# Altium footprint library floppy_m0dule.PcbLib: 13 footprints
Each footprint in its own frame and in the unit in brackets; x right, y up, seen from the top. Pads: shape width x height; smd on the part's side, far side on the other; paste and mask are expansions set on the pad; w line width, h text height; cw(c..) or ccw(c..) is an arc to the next point about the centre after c.
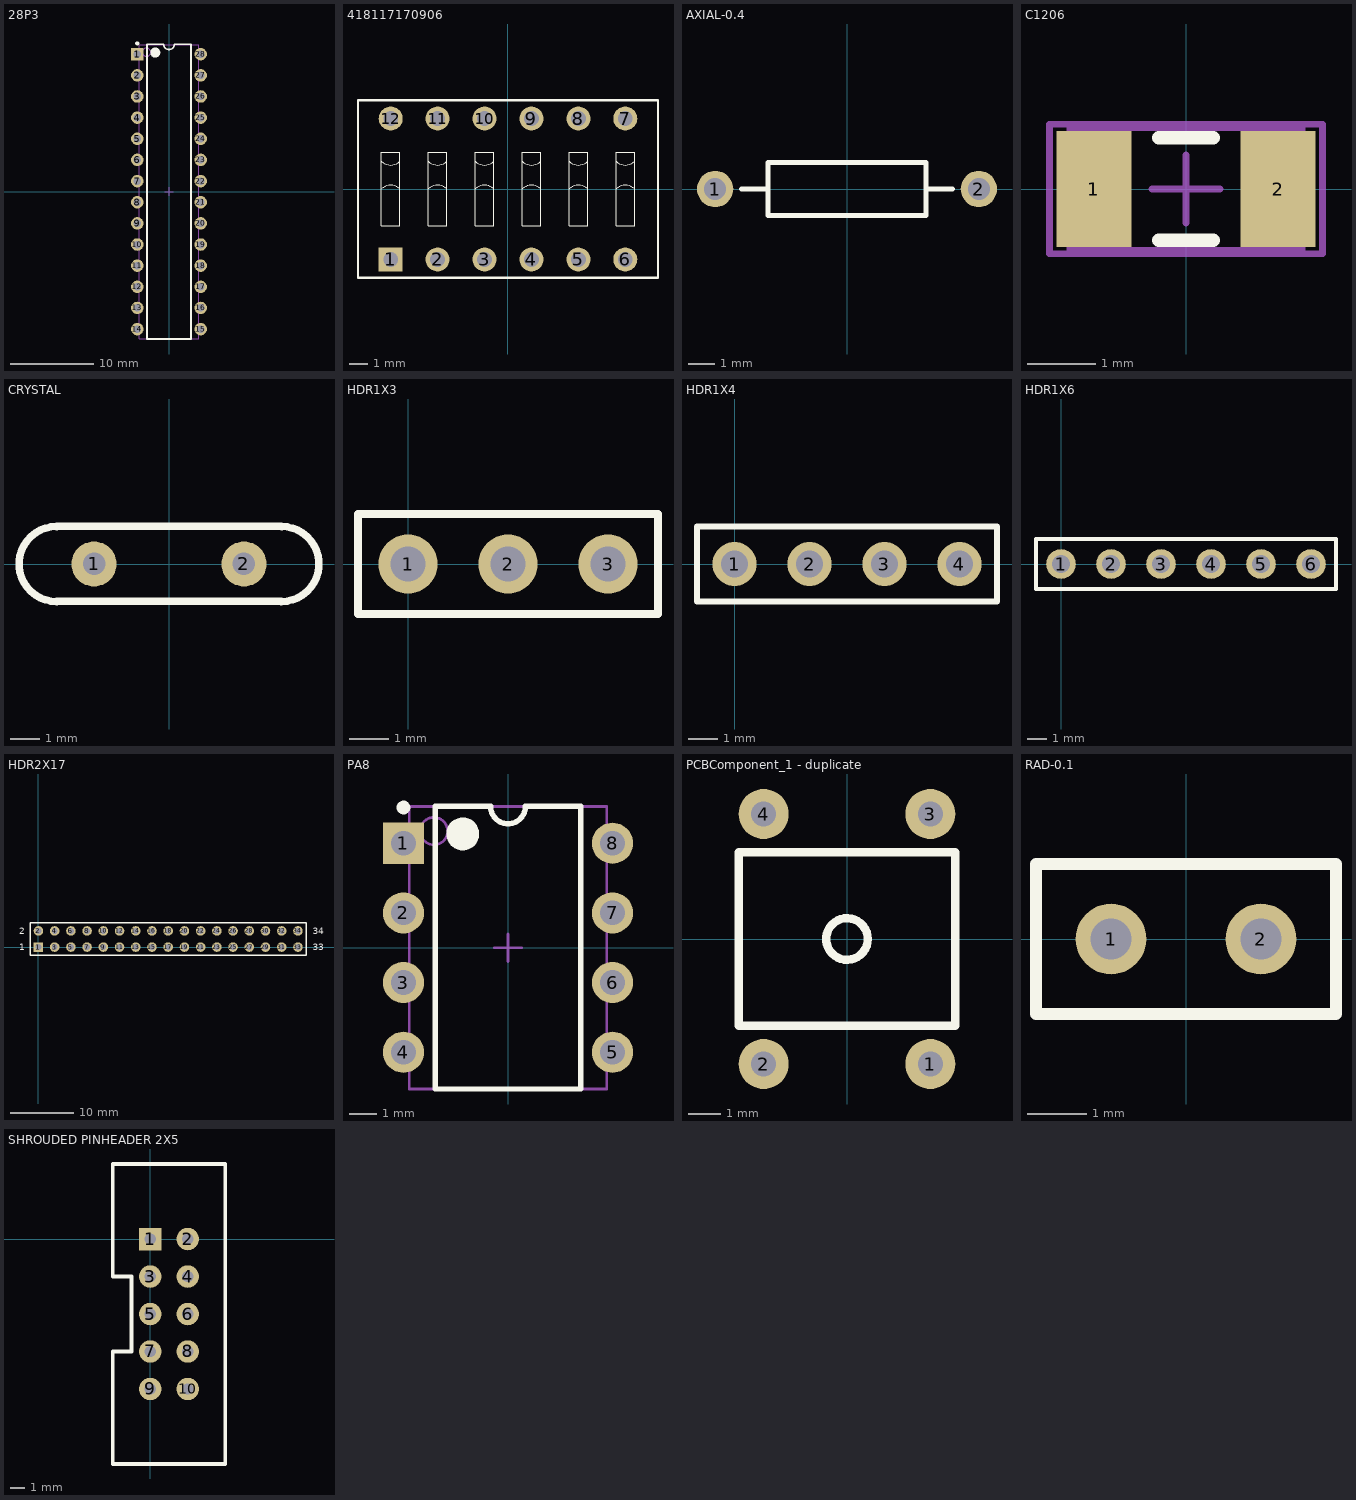
[diagram p0: the footprints below, top view; thin cyan lines are the x and y axes]

## 28P3 [mm] "DIP, 28-Leads, Row Spacing 7.62mm, Pitch 2.54mm, Body 34.67x7.3mm"
height 4.58
pads (28):
  rect 1.5x1.5 hole 0.9: 1(-3.81,16.51)
  round 1.5 hole 0.9: 2(-3.81,13.97) 3(-3.81,11.43) 4(-3.81,8.89) 5(-3.81,6.35) 6(-3.81,3.81) 7(-3.81,1.27) 8(-3.81,-1.27) 9(-3.81,-3.81) 10(-3.81,-6.35) 11(-3.81,-8.89) 12(-3.81,-11.43) 13(-3.81,-13.97) 14(-3.81,-16.51) 15(3.81,-16.51) 16(3.81,-13.97) 17(3.81,-11.43) 18(3.81,-8.89) 19(3.81,-6.35) 20(3.81,-3.81) 21(3.81,-1.27) 22(3.81,1.27) 23(3.81,3.81) 24(3.81,6.35) 25(3.81,8.89) 26(3.81,11.43) 27(3.81,13.97) 28(3.81,16.51)
Top Overlay:
  circle w0.6: c-1.65,16.7 r0.3
  circle w0.25: c-3.81,17.81 r0.125
  lines w0.2: -2.65,-17.7 2.65,-17.7 2.65,17.7 0.635,17.7 cw(c0,17.7) -0.635,17.7 -2.65,17.7 -2.65,-17.7
Mechanical 13:
  circle w0.1: c-2.7,16.75 r0.5
  lines w0.1: -3.6,-17.65 3.6,-17.65 3.6,17.65 -3.6,17.65 -3.6,-17.65
Mechanical 15:
  lines w0.1: -0.5,0 0.5,0 ; 0,-0.5 0,0.5
3D body: height 4.57, standoff -1.65, extent -3.937,-17.907 3.937,18.034

## 418117170906 [mm] "06p, 2.54mm Pitch, Horizontal, Box Type, THT, flat Actuator, red, without Tape, Tube"
height 5.2
pads (12):
  rect 1.3x1.3 hole 0.8: 1(-6.35,-3.81)
  round 1.3 hole 0.8: 2(-3.81,-3.81) 3(-1.27,-3.81) 4(1.27,-3.81) 5(3.81,-3.81) 6(6.35,-3.81) 7(6.35,3.81) 8(3.81,3.81) 9(1.27,3.81) 10(-1.27,3.81) 11(-3.81,3.81) 12(-6.35,3.81)
Top Overlay:
  lines w0.025: -6.85,0 cw(c-6.35,-0.5) -5.85,0 ; -6.85,1.5 ccw(c-6.35,2) -5.85,1.5 ; -4.31,0 cw(c-3.81,-0.5) -3.31,0 ; -4.31,1.5 ccw(c-3.81,2) -3.31,1.5 ; -1.77,0 cw(c-1.27,-0.5) -0.77,0 ; -1.77,1.5 ccw(c-1.27,2) -0.77,1.5 ; 0.77,0 cw(c1.27,-0.5) 1.77,0 ; 0.77,1.5 ccw(c1.27,2) 1.77,1.5 ; 3.31,0 cw(c3.81,-0.5) 4.31,0 ; 3.31,1.5 ccw(c3.81,2) 4.31,1.5 ; 5.85,0 cw(c6.35,-0.5) 6.85,0 ; 5.85,1.5 ccw(c6.35,2) 6.85,1.5 ; -6.85,-2 -5.85,-2 -5.85,2 -6.85,2 -6.85,-2 ; -4.31,-2 -3.31,-2 -3.31,2 -4.31,2 -4.31,-2 ; -1.77,-2 -0.77,-2 -0.77,2 -1.77,2 -1.77,-2 ; 0.77,-2 1.77,-2 1.77,2 0.77,2 0.77,-2 ; 3.31,-2 4.31,-2 4.31,2 3.31,2 3.31,-2 ; 5.85,-2 6.85,-2 6.85,2 5.85,2 5.85,-2
  lines w0.127: -8.12,-4.8 8.12,-4.8 ; -8.12,-4.8 -8.12,4.8 ; -8.12,-4.8 8.12,-4.8 ; -8.12,-4.8 -8.12,4.8 ; -8.12,4.8 8.12,4.8 ; -8.12,4.8 8.12,4.8 ; 8.12,-4.8 8.12,4.8 ; 8.12,-4.8 8.12,4.8
3D body: height 5.4, standoff -3.8, extent -8.12,-4.8 8.12,4.8

## AXIAL-0.4 [mm] "Axial Device, Thru-Hole; 2 Leads; 0.4 in Pin Spacing"
height 2.032
pads (2):
  round 1.4 hole 0.85: 1(-5.08,0) 2(5.08,0)
Top Overlay:
  lines w0.2: -4.064,0 -3.048,0 ; 3.048,0 4.064,0 ; -3.048,-1.016 3.048,-1.016 3.048,1.016 -3.048,1.016 -3.048,-1.016
3D body: height 2.47, standoff -3.73, extent -5.38,-1.203 5.38,1.203

## C1206 [mm] "Chip Capacitor, Body 3.2x1.6mm, IPC High Density"
height 1.3
pads (2):
  rect 1.1x1.7 smd: 1(-1.35,0) 2(1.35,0)
Top Overlay:
  lines w0.2: -0.4,-0.75 0.4,-0.75 ; -0.4,0.75 0.4,0.75
Mechanical 13:
  lines w0.1: -1.7,-0.9 -1.7,0.9 1.7,0.9 1.7,-0.9 -1.7,-0.9
Mechanical 15:
  lines w0.1: -0.5,0 0.5,0 ; 0,-0.5 0,0.5 ; -2,-0.95 -2,0.95 2,0.95 2,-0.95 -2,-0.95
3D body: height 1.6, standoff 0, extent -1.6,-0.8 1.6,0.8

## CRYSTAL [mil]
pads (2):
  round 60 hole 30: 1(-100,0) 2(100,0)
Top Overlay:
  lines w10: -150,-50 cw(c-150,0) -150,50 150,50 cw(c150,0) 150,-50 -150,-50
3D body: height 141.73, standoff -118.11, extent -215.08,-88.4 217.21,88.41

## HDR1X3 [mm] "Connector; Header; 3 Position"
pads (3):
  round 1.5 hole 0.9: 1(0,0) 2(2.54,0) 3(5.08,0)
Top Overlay:
  lines w0.2: -1.27,-1.27 -1.27,1.27 6.35,1.27 6.35,-1.27 -1.27,-1.27
3D body: height 8.54, standoff -3, extent -1.27,-1.245 6.35,1.245

## HDR1X4 [mm] "Connector; Header; 4 Position"
pads (4):
  round 1.5 hole 0.9: 1(0,0) 2(2.54,0) 3(5.08,0) 4(7.62,0)
Top Overlay:
  lines w0.2: -1.27,-1.27 8.89,-1.27 8.89,1.27 -1.27,1.27 -1.27,-1.27
3D body: height 8.54, standoff -3, extent -1.27,-1.245 8.89,1.245

## HDR1X6 [mm] "Connector; Header; 6 Position"
pads (6):
  round 1.5 hole 0.9: 1(0,0) 2(2.54,0) 3(5.08,0) 4(7.62,0) 5(10.16,0) 6(12.7,0)
Top Overlay:
  lines w0.2: -1.27,-1.27 13.97,-1.27 13.97,1.27 -1.27,1.27 -1.27,-1.27
3D body: height 8.54, standoff -3, extent -1.27,-1.245 13.97,1.245

## HDR2X17 [mm] "Connector; Header; 17x2 Position"
pads (34):
  rect 1.5x1.5 hole 0.9: 1(0,0)
  round 1.5 hole 0.9: 2(0,2.54) 3(2.54,0) 4(2.54,2.54) 5(5.08,0) 6(5.08,2.54) 7(7.62,0) 8(7.62,2.54) 9(10.16,0) 10(10.16,2.54) 11(12.7,0) 12(12.7,2.54) 13(15.24,0) 14(15.24,2.54) 15(17.78,0) 16(17.78,2.54) 17(20.32,0) 18(20.32,2.54) 19(22.86,0) 20(22.86,2.54) 21(25.4,0) 22(25.4,2.54) 23(27.94,0) 24(27.94,2.54) 25(30.48,0) 26(30.48,2.54) 27(33.02,0) 28(33.02,2.54) 29(35.56,0) 30(35.56,2.54) 31(38.1,0) 32(38.1,2.54) 33(40.64,0) 34(40.64,2.54)
Top Overlay:
  lines w0.2: -1.27,-1.27 -1.27,3.81 41.91,3.81 41.91,-1.27 -1.27,-1.27
  text "2" at -3.048,2.032 h1.02
  text "1" at -3.048,-0.508 h1.02
  text "33" at 42.926,-0.508 h1.02
  text "34" at 42.926,2.032 h1.02
3D body: height 5.79, standoff -1.45, extent -1.07,-9.779 41.71,2.85

## PA8 [mm] "DIP, 8-Leads, Row Spacing 7.62mm, Pitch 2.54mm, Body 9.38x7.24mm"
height 4.58
pads (8):
  rect 1.5x1.5 hole 0.9: 1(-3.81,3.81)
  round 1.5 hole 0.9: 2(-3.81,1.27) 3(-3.81,-1.27) 4(-3.81,-3.81) 5(3.81,-3.81) 6(3.81,-1.27) 7(3.81,1.27) 8(3.81,3.81)
Top Overlay:
  circle w0.6: c-1.65,4.15 r0.3
  circle w0.25: c-3.81,5.11 r0.125
  lines w0.2: -2.65,-5.15 2.65,-5.15 2.65,5.15 0.635,5.15 cw(c0,5.15) -0.635,5.15 -2.65,5.15 -2.65,-5.15
Mechanical 13:
  circle w0.1: c-2.7,4.25 r0.5
  lines w0.1: -3.6,-5.15 3.6,-5.15 3.6,5.15 -3.6,5.15 -3.6,-5.15
Mechanical 15:
  lines w0.1: -0.5,0 0.5,0 ; 0,-0.5 0,0.5
3D body: height 5.08, standoff -3.5, extent -3.933,-5.46 3.937,5.46

## PCBComponent_1 - duplicate [mil]
pads (4):
  round 60 hole 30: 1(100,-150) 2(-100,-150) 3(100,150) 4(-100,150)
Top Overlay:
  circle w10: c0,0 r25
  lines w10: -130,-104 130,-104 130,104 65,104 -65,104 -130,104 -130,-104

## RAD-0.1 [mm] "Radial Cap, Thru-Hole; 2 Leads; 0.1 in Pin Spacing"
pads (2):
  round 1.2 hole 0.7: 1(-1.27,0) 2(1.27,0)
Top Overlay:
  lines w0.2: -2.54,-1.27 2.54,-1.27 2.54,1.27 -2.54,1.27 -2.54,-1.27
3D body: height 7.46, standoff -6.34, extent -2,-1.31 2,1.3

## SHROUDED PINHEADER 2X5 [mil] "2x5 Shrouded Pinheader"
pads (10):
  rect 60x60 hole 30: 1(0,0)
  round 60 hole 30: 2(100,0) 3(0,-100) 4(100,-100) 5(0,-200) 6(100,-200) 7(0,-300) 8(100,-300) 9(0,-400) 10(100,-400)
Top Overlay:
  lines w10: -100,-600 200,-600 200,200 -100,200 -100,-100 -50,-100 -50,-300 -100,-300 -100,-600
3D body: height 366.93, standoff -120.04, extent -125,-591.93 239.96,191.93